# Altium footprint library FuseBox_footprint.PcbLib: 3 footprints
Each footprint in its own frame and in the unit in brackets; x right, y up, seen from the top. Pads: shape width x height; smd on the part's side, far side on the other; paste and mask are expansions set on the pad; w line width, h text height; cw(c..) or ccw(c..) is an arc to the next point about the centre after c.
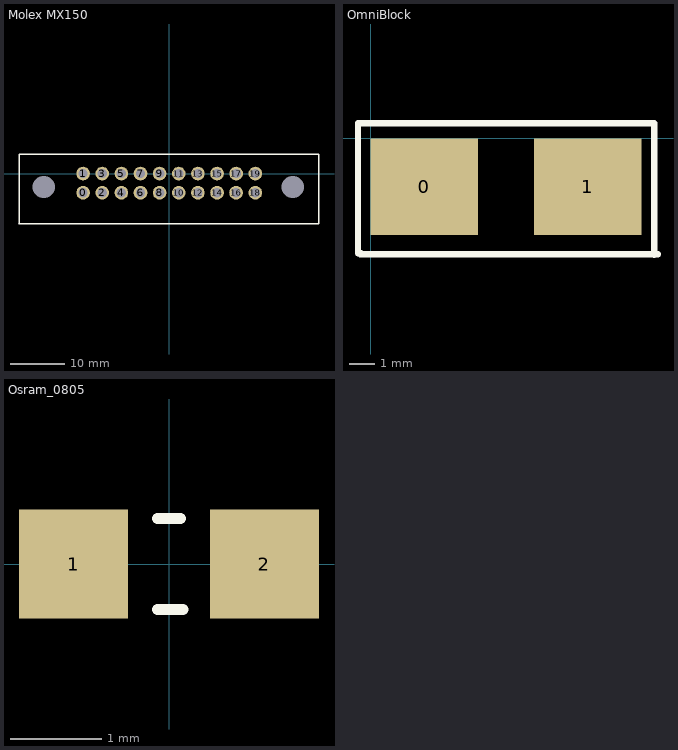
[diagram p0: the footprints below, top view; thin cyan lines are the x and y axes]

## Molex MX150 [mm]
pads (22):
  round 2.5 hole 1.7: 0(-15.75,-3.5) 1(-15.75,0) 2(-12.25,-3.5) 3(-12.25,0) 4(-8.75,-3.5) 5(-8.75,0) 6(-5.25,-3.5) 7(-5.25,0) 8(-1.75,-3.5) 9(-1.75,0) 10(1.75,-3.5) 11(1.75,0) 12(5.25,-3.5) 13(5.25,0) 14(8.75,-3.5) 15(8.75,0) 16(12.225,-3.5) 17(12.25,0) 18(15.75,-3.5) 19(15.75,0)
  round 1.524 hole 4.1: 21(-22.91,-2.46) 22(22.61,-2.46)
Top Overlay:
  lines w0.254: -27.475,-9.14 27.4,-9.14 27.4,3.5 -27.4,3.5 -27.4,-9.065 -27.475,-9.14
3D body: height 25.29, standoff 0, extent -25.15,-39.24 24.675,0.075

## OmniBlock [mm]
pads (2):
  rect 4.24x3.81 smd: 0(2.12,-1.905) 1(8.58,-1.905)
Top Overlay:
  lines w0.254: -0.5,-4.547 -0.5,0.559 ; -0.5,0.6 11.201,0.6 11.201,-4.6 ; -0.381,-4.547 -0.406,-4.572 11.354,-4.572 10.338,-4.572
3D body: height 3.8, standoff 0, extent -0.627,-4.727 11.481,0.727

## Osram_0805 [mm]
pads (2):
  rect 1.2x1.2 smd: 1(-1.05,0) 2(1.05,0)
Top Overlay:
  lines w0.12: -0.125,-0.5 0.152,-0.5 ; -0.125,0.5 0.125,0.5
3D body: height 0.9, standoff 0, extent -1.752,-0.702 1.752,0.702